# Altium footprint library 插座.PcbLib: 91 footprints (part 3 of 6)
Each footprint in its own frame and in the unit in brackets; x right, y up, seen from the top. Pads: shape width x height; smd on the part's side, far side on the other; paste and mask are expansions set on the pad; w line width, h text height; cw(c..) or ccw(c..) is an arc to the next point about the centre after c.
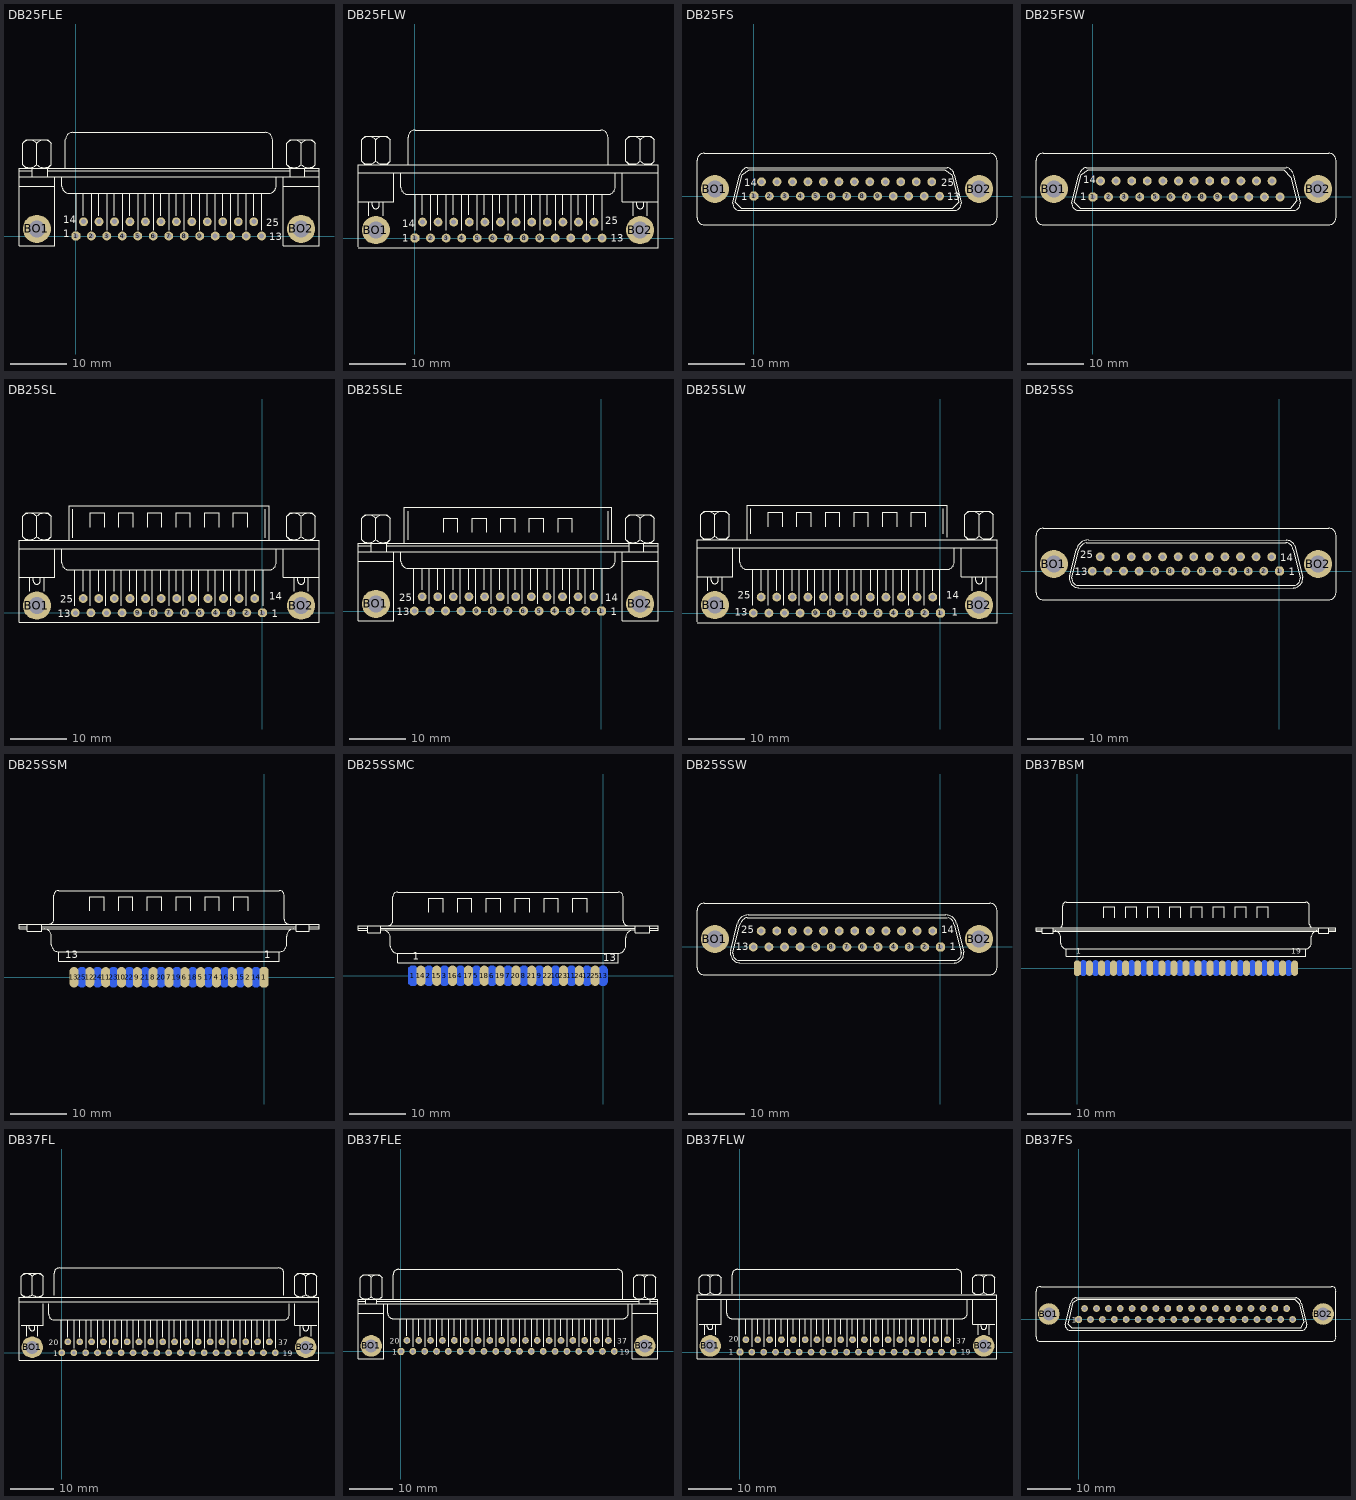
[diagram p2: the footprints below, top view; thin cyan lines are the x and y axes]

## DB25FLE [mil]
pads (27):
  oct 62x62 hole 35: 1(0,0)
  round 62 hole 35: 2(108.33,0) 3(216.67,0) 4(325,0) 5(433.33,0) 6(541.67,0) 7(650,0) 8(758.33,0) 9(866.67,0) 10(975,0) 11(1083.33,0) 12(1191.67,0) 13(1300,0) 14(53.33,100) 15(161.67,100) 16(270,100) 17(378.33,100) 18(486.67,100) 19(595,100) 20(703.33,100) 21(811.67,100) 22(920,100) 23(1028.33,100) 24(1136.67,100) 25(1245,100)
  round 196.67 hole 118.33: BO1(-273.33,50) BO2(1576.67,50)
TopOverlay:
  lines w8: -398.33,350 -148.33,350 ; -398.33,416.67 1701.67,416.67 ; -398.33,458.33 -306.67,458.33 ; -373.42,499.91 ccw(c-323.33,550) -273.25,499.91 ; -373.42,650.09 cw(c-323.33,600) -273.25,650.09 ; -348.33,475 -373.33,500 -373.33,650 -348.33,675 -198.33,675 -173.33,650 -173.33,500 -198.33,475 -198.33,416.67 ; -306.67,416.67 -306.67,475 ; -273.42,499.91 ccw(c-223.33,550) -173.25,499.91 ; -273.42,650.09 cw(c-223.33,600) -173.25,650.09 ; -273.33,500 -273.33,650 ; -198.33,458.33 1501.67,458.33 ; -148.33,416.67 -148.33,-66.67 -398.33,-66.67 -398.33,475 1701.67,475 1701.67,-66.67 1451.67,-66.67 1451.67,416.67 ; -98.33,416.67 -98.33,350 ccw(c-48.33,350) -48.33,300 1351.67,300 ccw(c1351.67,350) 1401.67,350 1401.67,416.67 ; -73.33,475 -73.33,675 cw(c-23.33,675) -23.33,725 1326.67,725 cw(c1326.67,675) 1376.67,675 1376.67,475 ; 1.67,41.67 1.67,300 ; 51.67,141.67 51.67,300 ; 110,41.67 110,300 ; 160,141.67 160,300 ; 218.33,41.67 218.33,300 ; 268.33,141.67 268.33,300 ; 326.67,41.67 326.67,300 ; 376.67,141.67 376.67,300 ; 435,41.67 435,300 ; 485,141.67 485,300 ; 543.33,41.67 543.33,300 ; 593.33,141.67 593.33,300 ; 651.67,41.67 651.67,300 ; 701.67,141.67 701.67,300 ; 760,41.67 760,300 ; 810,141.67 810,300 ; 868.33,41.67 868.33,300 ; 918.33,141.67 918.33,300 ; 976.67,41.67 976.67,300 ; 1026.67,141.67 1026.67,300 ; 1085,41.67 1085,300 ; 1135,141.67 1135,300 ; 1193.33,41.67 1193.33,300 ; 1243.33,141.67 1243.33,300 ; 1301.67,41.67 1301.67,300 ; 1451.67,350 1701.67,350 ; 1476.58,499.91 ccw(c1526.67,550) 1576.75,499.91 ; 1476.58,650.09 cw(c1526.67,600) 1576.75,650.09 ; 1501.67,416.67 1501.67,475 1476.67,500 1476.67,650 1501.67,675 1651.67,675 1676.67,650 1676.67,500 1651.67,475 ; 1576.58,499.91 ccw(c1626.67,550) 1676.75,499.91 ; 1576.58,650.09 cw(c1626.67,600) 1676.75,650.09 ; 1576.67,500 1576.67,650 ; 1601.67,416.67 1601.67,475 ; 1601.67,458.33 1701.67,458.33
  text "25" at 1331.67,70 h50
  text "13" at 1351.67,-30 h50
  text "1" at -88.33,-10 h50
  text "14" at -88.33,90 h50

## DB25FLW [mil]
pads (27):
  oct 62x62 hole 35: 1(0,0)
  round 62 hole 35: 2(109.17,0) 3(218.33,0) 4(327.5,0) 5(436.67,0) 6(545.83,0) 7(655,0) 8(764.17,0) 9(873.33,0) 10(982.5,0) 11(1091.67,0) 12(1200.83,0) 13(1310,0) 14(53.33,111.67) 15(162.5,111.67) 16(271.67,111.67) 17(380.83,111.67) 18(490,111.67) 19(599.17,111.67) 20(708.33,111.67) 21(817.5,111.67) 22(926.67,111.67) 23(1035.83,111.67) 24(1145,111.67) 25(1254.17,111.67)
  round 196.67 hole 118.33: BO1(-273.33,55.83) BO2(1576.67,55.83)
TopOverlay:
  lines w8: -398.33,-69.17 1701.67,-69.17 1701.67,514.17 -398.33,514.17 -398.33,-60.83 ; -398.33,255.83 -148.33,255.83 -148.33,455.83 ; -398.33,455.83 1701.67,455.83 ; -373.42,539.08 ccw(c-323.33,589.17) -273.25,539.08 ; -373.42,689.25 cw(c-323.33,639.17) -273.25,689.25 ; -348.33,514.17 -373.33,539.17 -373.33,689.17 -348.33,714.17 -198.33,714.17 -173.33,689.17 -173.33,539.17 -198.33,514.17 ; -323.33,155.83 -323.33,255.83 ; -298.33,255.83 -298.33,230.83 ccw(c-273.33,230.83) -248.33,230.83 -248.33,255.83 ; -273.42,539.08 ccw(c-223.33,589.17) -173.25,539.08 ; -273.42,689.25 cw(c-223.33,639.17) -173.25,689.25 ; -273.33,539.17 -273.33,689.17 ; -223.33,155.83 -223.33,255.83 ; -98.33,455.83 -98.33,355.83 ccw(c-48.33,355.83) -48.33,305.83 1351.67,305.83 ccw(c1351.67,355.83) 1401.67,355.83 1401.67,455.83 ; -48.33,514.17 -48.33,705.83 cw(c1.67,705.83) 1.67,755.83 1276.67,755.83 1301.67,755.83 cw(c1301.67,705.83) 1351.67,705.83 1351.67,514.17 ; 1.67,55.83 1.67,305.83 ; 51.67,164.17 51.67,305.83 ; 110,55.83 110,305.83 ; 160,164.17 160,305.83 ; 218.33,55.83 218.33,305.83 ; 268.33,164.17 268.33,305.83 ; 326.67,55.83 326.67,305.83 ; 376.67,164.17 376.67,305.83 ; 435,55.83 435,305.83 ; 485,164.17 485,305.83 ; 543.33,55.83 543.33,305.83 ; 593.33,172.5 593.33,305.83 ; 651.67,55.83 651.67,305.83 ; 710,172.5 710,305.83 ; 768.33,55.83 768.33,305.83 ; 818.33,164.17 818.33,305.83 ; 876.67,55.83 876.67,305.83 ; 926.67,164.17 926.67,305.83 ; 985,55.83 985,305.83 ; 1035,164.17 1035,305.83 ; 1093.33,55.83 1093.33,305.83 ; 1143.33,164.17 1143.33,305.83 ; 1201.67,55.83 1201.67,305.83 ; 1251.67,164.17 1251.67,305.83 ; 1310,55.83 1310,305.83 ; 1451.67,455.83 1451.67,255.83 1701.67,255.83 ; 1476.58,539.08 ccw(c1526.67,589.17) 1576.75,539.08 ; 1476.58,689.25 cw(c1526.67,639.17) 1576.75,689.25 ; 1501.67,514.17 1476.67,539.17 1476.67,689.17 1501.67,714.17 1651.67,714.17 1676.67,689.17 1676.67,539.17 1651.67,514.17 ; 1526.67,155.83 1526.67,255.83 ; 1551.67,255.83 1551.67,230.83 ccw(c1576.67,230.83) 1601.67,230.83 1601.67,255.83 ; 1576.58,539.08 ccw(c1626.67,589.17) 1676.75,539.08 ; 1576.58,689.25 cw(c1626.67,639.17) 1676.75,689.25 ; 1576.67,539.17 1576.67,689.17 ; 1626.67,155.83 1626.67,255.83
  text "14" at -88.33,75.83 h50
  text "1" at -88.33,-24.17 h50
  text "13" at 1371.67,-24.17 h50
  text "25" at 1331.67,95.83 h50

## DB25FS [mil]
pads (27):
  oct 62x62 hole 35: 1(0,0)
  round 62 hole 35: 2(108.33,0) 3(216.67,0) 4(325,0) 5(433.33,0) 6(541.67,0) 7(650,0) 8(758.33,0) 9(866.67,0) 10(975,0) 11(1083.33,0) 12(1191.67,0) 13(1300,0) 14(53.33,100) 15(161.67,100) 16(270,100) 17(378.33,100) 18(486.67,100) 19(595,100) 20(703.33,100) 21(811.67,100) 22(920,100) 23(1028.33,100) 24(1136.67,100) 25(1245,100)
  round 196.67 hole 118.33: BO1(-273.33,50) BO2(1576.67,50)
TopOverlay:
  lines w8: -98.33,150 -148.33,-50 ccw(c-98.33,-50) -98.33,-100 1401.67,-100 ccw(c1401.67,-50) 1451.67,-50 1401.67,150 ; -97.97,149.86 cw(c-31.67,133.33) -48.2,199.64 ; -48.33,200 1351.67,200 ; 1352.59,200.1 cw(c1343.33,141.67) 1401.92,149.9 ; -398.33,-150 ccw(c-348.33,-150) -348.33,-200 1651.67,-200 ccw(c1651.67,-150) 1701.67,-150 1701.67,250 ccw(c1651.67,250) 1651.67,300 -348.33,300 ccw(c-348.33,250) -398.33,250 -398.33,-150 ; -131.67,-41.67 -90,-83.33 1393.33,-83.33 1435,-41.67 1385,150 1335,183.33 -31.67,183.33 -81.67,150 -131.67,-41.67
  text "14" at -68.33,70 h50
  text "1" at -88.33,-30 h50
  text "13" at 1351.67,-30 h50
  text "25" at 1311.67,70 h50

## DB25FSW [mil]
pads (27):
  oct 62x62 hole 35: 1(0,0)
  round 62 hole 35: 2(109.17,0) 3(218.33,0) 4(327.5,0) 5(436.67,0) 6(545.83,0) 7(655,0) 8(764.17,0) 9(873.33,0) 10(982.5,0) 11(1091.67,0) 12(1200.83,0) 13(1310,0) 14(53.33,111.67) 15(162.5,111.67) 16(271.67,111.67) 17(380.83,111.67) 18(490,111.67) 19(599.17,111.67) 20(708.33,111.67) 21(817.5,111.67) 22(926.67,111.67) 23(1035.83,111.67) 24(1145,111.67) 25(1254.17,111.67)
  round 196.67 hole 118.33: BO1(-273.33,55.83) BO2(1576.67,55.83)
TopOverlay:
  lines w8: -98.33,-94.17 1401.67,-94.17 ccw(c1401.67,-44.17) 1451.67,-44.17 1401.67,155.83 ; -98.33,155.83 -148.33,-44.17 ccw(c-98.33,-44.17) -90.51,-93.55 ; -97.97,155.7 cw(c-31.67,139.17) -48.2,205.47 ; -48.33,205.83 1351.67,205.83 ; 1354.52,207.26 cw(c1335,139.17) 1401.13,164.55 ; -398.33,-144.17 ccw(c-348.33,-144.17) -348.33,-194.17 1651.67,-194.17 ccw(c1651.67,-144.17) 1701.67,-144.17 1701.67,255.83 ccw(c1651.67,255.83) 1651.67,305.83 -348.33,305.83 ccw(c-348.33,255.83) -398.33,255.83 -398.33,-144.17 ; -131.67,-35.83 -90,-77.5 1385,-77.5 1426.67,-27.5 1385,139.17 1335,189.17 -31.67,189.17 -81.67,155.83 -131.67,-35.83
  text "1" at -88.33,-24.17 h50
  text "14" at -68.33,95.83 h50

## DB25SL [mil]
pads (27):
  oct 62x62 hole 35: 1(0,0)
  round 62 hole 35: 2(-109.17,0) 3(-218.33,0) 4(-327.5,0) 5(-436.67,0) 6(-545.83,0) 7(-655,0) 8(-764.17,0) 9(-873.33,0) 10(-982.5,0) 11(-1091.67,0) 12(-1200.83,0) 13(-1310,0) 14(-54.17,100) 15(-163.33,100) 16(-272.5,100) 17(-381.67,100) 18(-490.83,100) 19(-600,100) 20(-709.17,100) 21(-818.33,100) 22(-927.5,100) 23(-1036.67,100) 24(-1145.83,100) 25(-1255,100)
  round 196.67 hole 118.33: BO1(-1579.17,50) BO2(270.83,50)
TopOverlay:
  lines w8: -1704.17,250 -1454.17,250 -1454.17,450 ; -1704.17,450 395.83,450 ; -1679.25,533.25 ccw(c-1629.17,583.33) -1579.08,533.25 ; -1679.25,675.09 cw(c-1629.17,625) -1579.08,675.09 ; -1654.17,508.33 -1679.17,533.33 -1679.17,675 -1654.17,700 -1504.17,700 -1479.17,675 -1479.17,533.33 -1504.17,508.33 ; -1629.17,150 -1629.17,250 ; -1604.17,250 -1604.17,225 ccw(c-1579.17,225) -1554.17,225 -1554.17,250 ; -1579.25,533.25 ccw(c-1529.17,583.33) -1479.08,533.25 ; -1579.25,675.09 cw(c-1529.17,625) -1479.08,675.09 ; -1579.17,533.33 -1579.17,675 ; -1529.17,150 -1529.17,250 ; -1404.17,450 -1404.17,350 ccw(c-1354.17,350) -1354.17,300 45.83,300 ccw(c45.83,350) 95.83,350 95.83,450 ; -1354.17,508.33 -1354.17,750 45.83,750 45.83,508.33 ; -1329.17,525 -1329.17,725 ; -1312.5,50 -1312.5,300 ; -1254.17,150 -1254.17,300 ; -1204.17,50 -1204.17,300 ; -1204.17,600 -1204.17,700 -1104.17,700 -1104.17,600 ; -1145.83,150 -1145.83,300 ; -1095.83,50 -1095.83,300 ; -1037.5,150 -1037.5,300 ; -1004.17,600 -1004.17,700 -904.17,700 -904.17,600 ; -987.5,50 -987.5,300 ; -929.17,150 -929.17,300 ; -879.17,50 -879.17,300 ; -820.83,150 -820.83,300 ; -804.17,600 -804.17,700 -704.17,700 -704.17,600 ; -770.83,50 -770.83,300 ; -712.5,150 -712.5,300 ; -654.17,50 -654.17,300 ; -604.17,150 -604.17,300 ; -604.17,600 -604.17,700 -504.17,700 -504.17,600 ; -554.17,50 -554.17,300 ; -495.83,150 -495.83,300 ; -445.83,50 -445.83,300 ; -404.17,600 -404.17,700 -304.17,700 -304.17,600 ; -379.17,150 -379.17,300 ; -329.17,50 -329.17,300 ; -270.83,150 -270.83,300 ; -220.83,50 -220.83,300 ; -204.17,600 -204.17,700 -104.17,700 -104.17,600 ; -162.5,150 -162.5,300 ; -112.5,50 -112.5,300 ; -54.17,150 -54.17,300 ; 4.17,50 4.17,300 ; 20.83,525 20.83,725 ; 145.83,450 145.83,250 395.83,250 ; 170.75,533.25 ccw(c220.83,583.33) 270.92,533.25 ; 170.75,675.09 cw(c220.83,625) 270.92,675.09 ; 195.83,508.33 170.83,533.33 170.83,675 195.83,700 345.83,700 370.83,675 370.83,533.33 345.83,508.33 ; 220.83,150 220.83,250 ; 245.83,250 245.83,225 ccw(c270.83,225) 295.83,225 295.83,250 ; 270.75,533.25 ccw(c320.83,583.33) 370.92,533.25 ; 270.75,675.09 cw(c320.83,625) 370.92,675.09 ; 270.83,533.33 270.83,675 ; 320.83,150 320.83,250 ; -1704.17,-66.67 395.83,-66.67 395.83,508.33 -1704.17,508.33 -1704.17,-66.67
  text "25" at -1414.17,70 h50
  text "13" at -1434.17,-30 h50
  text "1" at 65.83,-30 h50
  text "14" at 45.83,90 h50

## DB25SLE [mil]
pads (27):
  oct 62x62 hole 35: 1(0,0)
  round 62 hole 35: 2(-109.17,0) 3(-218.33,0) 4(-327.5,0) 5(-436.67,0) 6(-545.83,0) 7(-655,0) 8(-764.17,0) 9(-873.33,0) 10(-982.5,0) 11(-1091.67,0) 12(-1200.83,0) 13(-1310,0) 14(-54.17,100) 15(-163.33,100) 16(-272.5,100) 17(-381.67,100) 18(-490.83,100) 19(-600,100) 20(-709.17,100) 21(-818.33,100) 22(-927.5,100) 23(-1036.67,100) 24(-1145.83,100) 25(-1255,100)
  round 196.67 hole 118.33: BO1(-1579.17,50) BO2(270.83,50)
TopOverlay:
  lines w8: -1704.17,350 -1454.17,350 ; -1704.17,416.67 395.83,416.67 ; -1704.17,458.33 -1612.5,458.33 ; -1679.25,499.91 ccw(c-1629.17,550) -1579.08,499.91 ; -1679.25,650.09 cw(c-1629.17,600) -1579.08,650.09 ; -1654.17,475 -1679.17,500 -1679.17,650 -1654.17,675 -1504.17,675 -1479.17,650 -1479.17,500 -1504.17,475 -1504.17,416.67 ; -1612.5,416.67 -1612.5,475 ; -1579.25,499.91 ccw(c-1529.17,550) -1479.08,499.91 ; -1579.25,650.09 cw(c-1529.17,600) -1479.08,650.09 ; -1579.17,500 -1579.17,650 ; -1504.17,458.33 195.83,458.33 ; -1454.17,416.67 -1454.17,-66.67 -1704.17,-66.67 -1704.17,475 395.83,475 395.83,-66.67 145.83,-66.67 145.83,416.67 ; -1404.17,416.67 -1404.17,350 ccw(c-1354.17,350) -1354.17,300 45.83,300 ccw(c45.83,350) 95.83,350 95.83,416.67 ; -1379.17,475 -1379.17,725 70.83,725 70.83,475 ; -1354.17,500 -1354.17,700 ; -1312.5,50 -1312.5,300 ; -1254.17,150 -1254.17,300 ; -1204.17,50 -1204.17,300 ; -1145.83,150 -1145.83,300 ; -1104.17,550 -1104.17,650 -1004.17,650 -1004.17,550 ; -1095.83,50 -1095.83,300 ; -1037.5,150 -1037.5,300 ; -987.5,50 -987.5,300 ; -929.17,150 -929.17,300 ; -904.17,550 -904.17,650 -804.17,650 -804.17,550 ; -879.17,50 -879.17,300 ; -820.83,150 -820.83,300 ; -770.83,50 -770.83,300 ; -712.5,150 -712.5,300 ; -704.17,550 -704.17,650 -604.17,650 -604.17,550 ; -654.17,50 -654.17,300 ; -604.17,150 -604.17,300 ; -554.17,50 -554.17,300 ; -504.17,550 -504.17,650 -404.17,650 -404.17,550 ; -495.83,150 -495.83,300 ; -445.83,50 -445.83,300 ; -379.17,150 -379.17,300 ; -329.17,50 -329.17,300 ; -304.17,550 -304.17,650 -204.17,650 -204.17,550 ; -270.83,150 -270.83,300 ; -220.83,50 -220.83,300 ; -162.5,150 -162.5,300 ; -112.5,50 -112.5,300 ; -54.17,150 -54.17,300 ; 4.17,50 4.17,300 ; 45.83,500 45.83,700 ; 145.83,350 395.83,350 ; 170.75,499.91 ccw(c220.83,550) 270.92,499.91 ; 170.75,650.09 cw(c220.83,600) 270.92,650.09 ; 195.83,416.67 195.83,475 170.83,500 170.83,650 195.83,675 345.83,675 370.83,650 370.83,500 345.83,475 ; 270.75,499.91 ccw(c320.83,550) 370.92,499.91 ; 270.75,650.09 cw(c320.83,600) 370.92,650.09 ; 270.83,500 270.83,650 ; 295.83,416.67 295.83,475 ; 295.83,458.33 395.83,458.33
  text "14" at 25.83,70 h50
  text "1" at 65.83,-30 h50
  text "13" at -1434.17,-30 h50
  text "25" at -1414.17,70 h50

## DB25SLW [mil]
pads (27):
  oct 62x62 hole 35: 1(0,0)
  round 62 hole 35: 2(-109.17,0) 3(-218.33,0) 4(-327.5,0) 5(-436.67,0) 6(-545.83,0) 7(-655,0) 8(-764.17,0) 9(-873.33,0) 10(-982.5,0) 11(-1091.67,0) 12(-1200.83,0) 13(-1310,0) 14(-54.17,111.67) 15(-163.33,111.67) 16(-272.5,111.67) 17(-381.67,111.67) 18(-490.83,111.67) 19(-600,111.67) 20(-709.17,111.67) 21(-818.33,111.67) 22(-927.5,111.67) 23(-1036.67,111.67) 24(-1145.83,111.67) 25(-1255,111.67)
  round 196.67 hole 118.33: BO1(-1579.17,55.83) BO2(270.83,55.83)
TopOverlay:
  lines w8: -1704.17,-69.17 395.83,-69.17 395.83,514.17 -1704.17,514.17 -1704.17,-60.83 ; -1704.17,255.83 -1454.17,255.83 -1454.17,455.83 ; -1704.17,455.83 395.83,455.83 ; -1679.25,539.08 ccw(c-1629.17,589.17) -1579.08,539.08 ; -1679.25,689.25 cw(c-1629.17,639.17) -1579.08,689.25 ; -1654.17,514.17 -1679.17,539.17 -1679.17,689.17 -1654.17,714.17 -1504.17,714.17 -1479.17,689.17 -1479.17,539.17 -1504.17,514.17 ; -1629.17,155.83 -1629.17,255.83 ; -1604.17,255.83 -1604.17,230.83 ccw(c-1579.17,230.83) -1554.17,230.83 -1554.17,255.83 ; -1579.25,539.08 ccw(c-1529.17,589.17) -1479.08,539.08 ; -1579.25,689.25 cw(c-1529.17,639.17) -1479.08,689.25 ; -1579.17,539.17 -1579.17,689.17 ; -1529.17,155.83 -1529.17,255.83 ; -1404.17,455.83 -1404.17,355.83 ccw(c-1354.17,355.83) -1354.17,305.83 45.83,305.83 ccw(c45.83,355.83) 95.83,355.83 95.83,455.83 ; -1354.17,514.17 -1354.17,755.83 45.83,755.83 45.83,530.83 ; -1329.17,555.83 -1329.17,730.83 ; -1312.5,55.83 -1312.5,305.83 ; -1254.17,155.83 -1254.17,305.83 ; -1204.17,55.83 -1204.17,305.83 ; -1204.17,605.83 -1204.17,705.83 -1104.17,705.83 -1104.17,605.83 ; -1145.83,155.83 -1145.83,305.83 ; -1095.83,55.83 -1095.83,305.83 ; -1037.5,155.83 -1037.5,305.83 ; -1004.17,605.83 -1004.17,705.83 -904.17,705.83 -904.17,605.83 ; -987.5,55.83 -987.5,305.83 ; -929.17,155.83 -929.17,305.83 ; -879.17,55.83 -879.17,305.83 ; -820.83,155.83 -820.83,305.83 ; -804.17,605.83 -804.17,705.83 -704.17,705.83 -704.17,605.83 ; -770.83,55.83 -770.83,305.83 ; -712.5,155.83 -712.5,305.83 ; -654.17,55.83 -654.17,305.83 ; -604.17,155.83 -604.17,305.83 ; -604.17,605.83 -604.17,705.83 -504.17,705.83 -504.17,605.83 ; -554.17,55.83 -554.17,305.83 ; -487.5,155.83 -487.5,305.83 ; -437.5,55.83 -437.5,305.83 ; -404.17,605.83 -404.17,705.83 -304.17,705.83 -304.17,605.83 ; -379.17,155.83 -379.17,305.83 ; -329.17,55.83 -329.17,305.83 ; -270.83,155.83 -270.83,305.83 ; -220.83,55.83 -220.83,305.83 ; -204.17,605.83 -204.17,705.83 -104.17,705.83 -104.17,605.83 ; -162.5,155.83 -162.5,305.83 ; -112.5,55.83 -112.5,305.83 ; -54.17,155.83 -54.17,305.83 ; -4.17,55.83 -4.17,305.83 ; 20.83,555.83 20.83,730.83 ; 145.83,455.83 145.83,255.83 395.83,255.83 ; 170.75,539.08 ccw(c220.83,589.17) 270.92,539.08 ; 170.75,689.25 cw(c220.83,639.17) 270.92,689.25 ; 195.83,514.17 170.83,539.17 170.83,689.17 195.83,714.17 345.83,714.17 370.83,689.17 370.83,539.17 345.83,514.17 ; 220.83,155.83 220.83,255.83 ; 245.83,255.83 245.83,230.83 ccw(c270.83,230.83) 295.83,230.83 295.83,255.83 ; 270.75,539.08 ccw(c320.83,589.17) 370.92,539.08 ; 270.75,689.25 cw(c320.83,639.17) 370.92,689.25 ; 270.83,539.17 270.83,689.17 ; 320.83,155.83 320.83,255.83
  text "1" at 80,-20 h50
  text "14" at 40,100 h50
  text "25" at -1420,100 h50
  text "13" at -1440,-20 h50

## DB25SS [mil]
pads (27):
  oct 62x62 hole 35: 1(0,0)
  round 62 hole 35: 2(-109.17,0) 3(-218.33,0) 4(-327.5,0) 5(-436.67,0) 6(-545.83,0) 7(-655,0) 8(-764.17,0) 9(-873.33,0) 10(-982.5,0) 11(-1091.67,0) 12(-1200.83,0) 13(-1310,0) 14(-54.17,100) 15(-163.33,100) 16(-272.5,100) 17(-381.67,100) 18(-490.83,100) 19(-600,100) 20(-709.17,100) 21(-818.33,100) 22(-927.5,100) 23(-1036.67,100) 24(-1145.83,100) 25(-1255,100)
  round 196.67 hole 118.33: BO1(-1579.17,50) BO2(270.83,50)
TopOverlay:
  lines w8: -1469.17,-35 -1420.83,150 ; -1468.85,-33.87 ccw(c-1404.17,-50) -1404.17,-116.67 95.83,-118.33 ; -1420.94,149.55 cw(c-1337.5,133.33) -1337.5,218.33 45.83,216.67 cw(c45.83,150) 107.2,176.05 ; -1404.46,149.46 cw(c-1329.17,125) -1353.63,200.29 ; -1404.17,150 -1454.17,-50 ccw(c-1404.17,-50) -1404.17,-100 95.83,-100 ccw(c95.83,-50) 145.83,-50 95.83,150 ; -1354.17,200 45.83,200 ; 45.73,200.26 cw(c37.5,141.67) 96.09,149.9 ; 95.83,-117.5 ccw(c95.83,-50) 162.83,-41.77 ; 107.5,176.67 162.5,-41.67 ; -1704.17,-150 ccw(c-1654.17,-150) -1654.17,-200 345.83,-200 ccw(c345.83,-150) 395.83,-150 395.83,250 ccw(c345.83,250) 345.83,300 -1654.17,300 ccw(c-1654.17,250) -1704.17,250 -1704.17,-150
  text "25" at -1394.17,90 h50
  text "13" at -1434.17,-30 h50
  text "1" at 65.83,-30 h50
  text "14" at 5.83,70 h50

## DB25SSM [mil]
pads (25):
  oct 62.5x141.67 smd: 1(0,0)
  oval 62.5x141.67 smd: 2(-110,0) 3(-220,0) 4(-330,0) 5(-440,0) 6(-550,0) 7(-660,0) 8(-770,0) 9(-880,0) 10(-990,0) 11(-1100,0) 12(-1210,0) 13(-1320,0)
  oval 62.5x141.67 smd far side: 14(-55,0) 15(-165,0) 16(-275,0) 17(-385,0) 18(-495,0) 19(-605,0) 20(-715,0) 21(-825,0) 22(-935,0) 23(-1045,0) 24(-1155,0) 25(-1265,0)
TopOverlay:
  lines w8: -1701.67,351.67 -1643.33,351.67 ; -1643.33,335 -1701.67,335 -1701.67,368.33 381.67,368.33 381.67,335 315,335 ; -1643.33,368.33 -1643.33,318.33 -1543.33,318.33 -1543.33,368.33 ; -1543.33,335 223.33,335 ; -1543.33,351.67 223.33,351.67 ; -1526.67,335 cw(c-1526.67,285) -1476.67,285 -1476.67,226.67 ccw(c-1426.67,226.67) -1426.67,176.67 ; -1493.33,368.33 ccw(c-1493.33,401.67) -1460,401.67 -1460,568.33 cw(c-1426.67,568.33) -1426.67,601.67 106.67,601.67 cw(c106.67,568.33) 140,568.33 140,401.67 ccw(c173.33,401.67) 173.33,368.33 ; -1210,460 -1210,560 -1110,560 -1110,460 ; -1010,460 -1010,560 -910,560 -910,460 ; -810,460 -810,560 -710,560 -710,460 ; -610,460 -610,560 -510,560 -510,460 ; -410,460 -410,560 -310,560 -310,460 ; -210,460 -210,560 -110,560 -110,460 ; 206.67,335 ccw(c206.67,285) 156.67,285 156.67,226.67 cw(c106.67,226.67) 106.67,176.67 ; 223.33,368.33 223.33,318.33 315,318.33 315,368.33 ; 315,351.67 381.67,351.67 ; -1426.67,176.67 -1426.67,110 106.67,110 106.67,176.67 ; -1426.67,176.67 106.67,176.67
  text "13" at -1380,130 h50
  text "1" at 0,130 h50

## DB25SSMC [mil]
pads (25):
  oct 62.5x141.67 smd far side: 1(-1320,0)
  oval 62.5x141.67 smd far side: 2(-1210,0) 3(-1100,0) 4(-990,0) 5(-880,0) 6(-770,0) 7(-660,0) 8(-550,0) 9(-440,0) 10(-330,0) 11(-220,0) 12(-110,0) 13(0,0)
  oval 62.5x141.67 smd: 14(-1265,0) 15(-1155,0) 16(-1045,0) 17(-935,0) 18(-825,0) 19(-715,0) 20(-605,0) 21(-495,0) 22(-385,0) 23(-275,0) 24(-165,0) 25(-55,0)
TopOverlay:
  lines w8: -1701.67,331.67 -1635,331.67 ; -1635,315 -1701.67,315 -1701.67,348.33 381.67,348.33 381.67,315 323.33,315 ; -1635,348.33 -1635,298.33 -1543.33,298.33 -1543.33,348.33 ; -1546.67,320 220,320 ; -1543.33,331.67 223.33,331.67 ; -1526.67,315 cw(c-1526.67,265) -1476.67,265 -1476.67,206.67 ccw(c-1426.67,206.67) -1426.67,156.67 ; -1493.33,348.33 ccw(c-1493.33,381.67) -1460,381.67 -1460,548.33 cw(c-1426.67,548.33) -1426.67,581.67 106.67,581.67 cw(c106.67,548.33) 140,548.33 140,381.67 ccw(c173.33,381.67) 173.33,348.33 ; -1210,440 -1210,540 -1110,540 -1110,440 ; -1010,440 -1010,540 -910,540 -910,440 ; -810,440 -810,540 -710,540 -710,440 ; -610,440 -610,540 -510,540 -510,440 ; -410,440 -410,540 -310,540 -310,440 ; -210,440 -210,540 -110,540 -110,440 ; 206.67,315 ccw(c206.67,265) 156.67,265 156.67,206.67 cw(c106.67,206.67) 106.67,156.67 ; 223.33,348.33 223.33,298.33 323.33,298.33 323.33,348.33 ; 323.33,331.67 381.67,331.67 ; -1426.67,156.67 -1426.67,90 106.67,90 106.67,156.67 ; -1426.67,156.67 106.67,156.67
  text "1" at -1320,110 h50
  text "13" at 0,100 h50

## DB25SSW [mil]
pads (27):
  oct 62x62 hole 35: 1(0,0)
  round 62 hole 35: 2(-109.17,0) 3(-218.33,0) 4(-327.5,0) 5(-436.67,0) 6(-545.83,0) 7(-655,0) 8(-764.17,0) 9(-873.33,0) 10(-982.5,0) 11(-1091.67,0) 12(-1200.83,0) 13(-1310,0) 14(-54.17,111.67) 15(-163.33,111.67) 16(-272.5,111.67) 17(-381.67,111.67) 18(-490.83,111.67) 19(-600,111.67) 20(-709.17,111.67) 21(-818.33,111.67) 22(-927.5,111.67) 23(-1036.67,111.67) 24(-1145.83,111.67) 25(-1255,111.67)
  round 196.67 hole 118.33: BO1(-1579.17,55.83) BO2(270.83,55.83)
TopOverlay:
  lines w8: -1469.17,-25.83 -1420.83,164.17 ; -1468.25,-25.79 ccw(c-1404.17,-44.17) -1404.17,-110.83 95.83,-112.5 ; -1420.53,164.75 cw(c-1345.83,147.5) -1345.83,224.16 37.5,224.17 cw(c37.5,147.5) 112.2,164.75 ; -1404.17,155.83 -1454.17,-44.17 ccw(c-1404.17,-44.17) -1404.17,-94.17 95.83,-94.17 ccw(c95.83,-44.17) 145.22,-36.35 ; -1403.8,155.7 cw(c-1337.5,139.17) -1354.03,205.47 ; -1354.17,205.83 45.83,205.83 ; 53.81,204.37 cw(c37.5,147.5) 96.09,155.73 ; 95.83,-111.67 ccw(c95.83,-44.17) 162.83,-35.94 ; 95.83,155.83 145.83,-44.17 ; 112.5,164.17 162.5,-35.83 ; -1704.17,-144.17 ccw(c-1654.17,-144.17) -1654.17,-194.17 345.83,-194.17 ccw(c345.83,-144.17) 395.83,-144.17 395.83,255.83 ccw(c345.83,255.83) 345.83,305.83 -1654.17,305.83 ccw(c-1654.17,255.83) -1704.17,255.83 -1704.17,-144.17
  text "13" at -1434.17,-24.17 h50
  text "1" at 65.83,-24.17 h50
  text "14" at 5.83,95.83 h50
  text "25" at -1394.17,95.83 h50

## DB37BSM [mil]
pads (37):
  oct 62.5x141.67 smd: 1(0,0)
  oval 62.5x141.67 smd: 2(110,0) 3(220,0) 4(330,0) 5(440,0) 6(550,0) 7(660,0) 8(770,0) 9(880,0) 10(990,0) 11(1100,0) 12(1210,0) 13(1320,0) 14(1430,0) 15(1540,0) 16(1650,0) 17(1760,0) 18(1870,0) 19(1980,0)
  oval 62.5x141.67 smd far side: 20(55,0) 21(165,0) 22(275,0) 23(385,0) 24(495,0) 25(605,0) 26(715,0) 27(825,0) 28(935,0) 29(1045,0) 30(1155,0) 31(1265,0) 32(1375,0) 33(1485,0) 34(1595,0) 35(1705,0) 36(1815,0) 37(1925,0)
TopOverlay:
  lines w8: -376.67,351.67 -318.33,351.67 ; -318.33,335 -376.67,335 -376.67,368.33 2356.67,368.33 2356.67,335 2290,335 ; -318.33,368.33 -318.33,318.33 -218.33,318.33 -218.33,368.33 ; -218.33,335 2198.33,335 ; -218.33,351.67 2198.33,351.67 ; -201.67,335 cw(c-201.67,285) -151.67,285 -151.67,226.67 ccw(c-101.67,226.67) -101.67,176.67 ; -168.33,368.33 ccw(c-168.33,401.67) -135,401.67 -135,568.33 cw(c-101.67,568.33) -101.67,601.67 2081.67,601.67 cw(c2081.67,568.33) 2115,568.33 2115,401.67 ccw(c2148.33,401.67) 2148.33,368.33 ; 240,460 240,560 340,560 340,460 ; 440,460 440,560 540,560 540,460 ; 640,460 640,560 740,560 740,460 ; 840,460 840,560 940,560 940,460 ; 1040,460 1040,560 1140,560 1140,460 ; 1240,460 1240,560 1340,560 1340,460 ; 1440,460 1440,560 1540,560 1540,460 ; 1640,460 1640,560 1740,560 1740,460 ; 2181.67,335 ccw(c2181.67,285) 2131.67,285 2131.67,226.67 cw(c2081.67,226.67) 2081.67,176.67 ; 2198.33,368.33 2198.33,318.33 2290,318.33 2290,368.33 ; 2290,351.67 2356.67,351.67 ; -101.67,176.67 -101.67,110 2081.67,110 2081.67,176.67 ; -101.67,176.67 2081.67,176.67
  text "19" at 1950,130 h50
  text "1" at -10,130 h50

## DB37FL [mil]
pads (39):
  oct 62x62 hole 35: 1(0,0)
  round 62 hole 35: 2(110,0) 3(218.33,0) 4(326.67,0) 5(435,0) 6(543.33,0) 7(651.67,0) 8(760,0) 9(868.33,0) 10(976.67,0) 11(1085,0) 12(1193.33,0) 13(1301.67,0) 14(1410,0) 15(1518.33,0) 16(1626.67,0) 17(1735,0) 18(1843.33,0) 19(1951.67,0) 20(55.83,100) 21(164.17,100) 22(272.5,100) 23(380.83,100) 24(489.17,100) 25(597.5,100) 26(705.83,100) 27(814.17,100) 28(922.5,100) 29(1030.83,100) 30(1139.17,100) 31(1247.5,100) 32(1355.83,100) 33(1464.17,100) 34(1572.5,100) 35(1680.83,100) 36(1789.17,100) 37(1897.5,100)
  round 196.67 hole 118.33: BO1(-270,50) BO2(2230,50)
TopOverlay:
  lines w8: -386.67,466.67 2346.67,466.67 ; -370.09,533.25 ccw(c-320,583.33) -269.91,533.25 ; -370.09,700.09 cw(c-320,650) -269.91,700.09 ; -370,250 -170,250 -170,450 ; -345,508.33 -370,533.33 -370,700 -345,725 -195,725 -170,700 -170,533.33 -195,508.33 ; -320,150 -320,250 ; -295,250 -295,225 ccw(c-270,225) -245,225 -245,250 ; -270.09,533.25 ccw(c-220,583.33) -169.91,533.25 ; -270.09,700.09 cw(c-220,650) -169.91,700.09 ; -270,533.33 -270,675 -270,700 ; -220,150 -220,250 ; -120,450 -120,350 ccw(c-70,350) -70,300 2030,300 ccw(c2030,350) 2080,350 2080,450 ; -70,525 -70,725 cw(c-20,725) -20,775 1980,775 cw(c1980,725) 2030,725 2030,525 ; -3.33,41.67 -3.33,300 ; 55,141.67 55,300 ; 113.33,41.67 113.33,291.67 113.33,300 ; 163.33,141.67 163.33,300 ; 221.67,41.67 221.67,291.67 221.67,300 ; 271.67,141.67 271.67,300 ; 330,41.67 330,291.67 330,300 ; 380,141.67 380,300 ; 438.33,41.67 438.33,291.67 438.33,300 ; 488.33,141.67 488.33,300 ; 546.67,41.67 546.67,291.67 546.67,300 ; 596.67,141.67 596.67,300 ; 655,41.67 655,291.67 655,300 ; 705,141.67 705,300 ; 763.33,41.67 763.33,291.67 763.33,300 ; 813.33,141.67 813.33,300 ; 871.67,41.67 871.67,291.67 871.67,300 ; 921.67,141.67 921.67,300 ; 980,41.67 980,300 ; 1030,141.67 1030,300 ; 1088.33,41.67 1088.33,300 ; 1138.33,141.67 1138.33,300 ; 1196.67,41.67 1196.67,291.67 1196.67,300 ; 1246.67,141.67 1246.67,300 ; 1305,41.67 1305,291.67 1305,300 ; 1355,141.67 1355,300 ; 1413.33,41.67 1413.33,291.67 1413.33,300 ; 1463.33,141.67 1463.33,300 ; 1521.67,41.67 1521.67,291.67 1521.67,300 ; 1571.67,141.67 1571.67,300 ; 1630,41.67 1630,291.67 1630,300 ; 1680,141.67 1680,300 ; 1738.33,41.67 1738.33,291.67 1738.33,300 ; 1788.33,141.67 1788.33,300 ; 1846.67,41.67 1846.67,291.67 1846.67,300 ; 1896.67,141.67 1896.67,300 ; 1955,41.67 1955,291.67 1955,300 ; 2129.91,533.25 ccw(c2180,583.33) 2230.09,533.25 ; 2129.91,700.09 cw(c2180,650) 2230.09,700.09 ; 2130,450 2130,250 2330,250 ; 2155,508.33 2130,533.33 2130,700 2155,725 2305,725 2330,700 2330,533.33 2305,508.33 ; 2180,150 2180,250 ; 2205,250 2205,225 ccw(c2230,225) 2255,225 2255,250 ; 2229.91,533.25 ccw(c2280,583.33) 2330.09,533.25 ; 2229.91,700.09 cw(c2280,650) 2330.09,700.09 ; 2230,533.33 2230,675 2230,700 ; 2280,150 2280,250 ; -386.67,-66.67 2346.67,-66.67 2346.67,508.33 -386.67,508.33 -386.67,-66.67
  text "19" at 2020,-30 h50
  text "37" at 1980,70 h50
  text "20" at -120,70 h50
  text "1" at -80,-30 h50

## DB37FLE [mil]
pads (39):
  oct 62x62 hole 35: 1(0,0)
  round 62 hole 35: 2(108.33,0) 3(216.67,0) 4(325,0) 5(433.33,0) 6(541.67,0) 7(650,0) 8(758.33,0) 9(866.67,0) 10(975,0) 11(1083.33,0) 12(1191.67,0) 13(1300,0) 14(1408.33,0) 15(1516.67,0) 16(1625,0) 17(1733.33,0) 18(1841.67,0) 19(1950,0) 20(54.17,100) 21(162.5,100) 22(270.83,100) 23(379.17,100) 24(487.5,100) 25(595.83,100) 26(704.17,100) 27(812.5,100) 28(920.83,100) 29(1029.17,100) 30(1137.5,100) 31(1245.83,100) 32(1354.17,100) 33(1462.5,100) 34(1570.83,100) 35(1679.17,100) 36(1787.5,100) 37(1895.83,100)
  round 196.67 hole 118.33: BO1(-271.67,50) BO2(2228.33,50)
TopOverlay:
  lines w8: -388.33,350 -155,350 ; -388.33,433.33 2345,433.33 ; -388.33,458.33 -321.67,458.33 ; -371.75,499.91 ccw(c-321.67,550) -271.58,499.91 ; -371.75,675.09 cw(c-321.67,625) -271.58,675.09 ; -346.67,475 -371.67,500 -371.67,675 -346.67,700 -196.67,700 -171.67,675 -171.67,500 -196.67,475 ; -321.67,433.33 -321.67,475 ; -271.75,499.91 ccw(c-221.67,550) -171.58,499.91 ; -271.75,675.09 cw(c-221.67,625) -171.58,675.09 ; -271.67,500 -271.67,675 ; -221.67,433.33 -221.67,475 ; -221.67,458.33 2178.33,458.33 ; -155,433.33 -155,-66.67 -388.33,-66.67 -388.33,475 2345,475 2345,-66.67 2111.67,-66.67 2111.67,433.33 ; -121.67,433.33 -121.67,350 ccw(c-71.67,350) -71.67,300 2028.33,300 ccw(c2028.33,350) 2078.33,350 2078.33,433.33 ; -71.67,475 -71.67,700 cw(c-21.67,700) -21.67,750 1978.33,750 cw(c1978.33,700) 2028.33,700 2028.33,475 ; -5,41.67 -5,300 ; 53.33,141.67 53.33,300 ; 111.67,41.67 111.67,291.67 111.67,300 ; 161.67,141.67 161.67,300 ; 220,41.67 220,291.67 220,300 ; 270,141.67 270,300 ; 328.33,41.67 328.33,291.67 328.33,300 ; 378.33,141.67 378.33,300 ; 436.67,41.67 436.67,291.67 436.67,300 ; 486.67,141.67 486.67,300 ; 545,41.67 545,291.67 545,300 ; 595,141.67 595,300 ; 653.33,41.67 653.33,291.67 653.33,300 ; 703.33,141.67 703.33,300 ; 761.67,41.67 761.67,291.67 761.67,300 ; 811.67,141.67 811.67,300 ; 870,41.67 870,291.67 870,300 ; 920,141.67 920,300 ; 978.33,41.67 978.33,300 ; 1028.33,141.67 1028.33,300 ; 1086.67,41.67 1086.67,300 ; 1136.67,141.67 1136.67,300 ; 1195,41.67 1195,291.67 1195,300 ; 1245,141.67 1245,300 ; 1303.33,41.67 1303.33,291.67 1303.33,300 ; 1353.33,141.67 1353.33,300 ; 1411.67,41.67 1411.67,291.67 1411.67,300 ; 1461.67,141.67 1461.67,300 ; 1520,41.67 1520,291.67 1520,300 ; 1570,141.67 1570,300 ; 1628.33,41.67 1628.33,291.67 1628.33,300 ; 1678.33,141.67 1678.33,300 ; 1736.67,41.67 1736.67,291.67 1736.67,300 ; 1786.67,141.67 1786.67,300 ; 1845,41.67 1845,291.67 1845,300 ; 1895,141.67 1895,300 ; 1953.33,41.67 1953.33,291.67 1953.33,300 ; 2111.67,350 2345,350 ; 2128.25,499.91 ccw(c2178.33,550) 2228.42,499.91 ; 2128.25,675.09 cw(c2178.33,625) 2228.42,675.09 ; 2153.33,475 2128.33,500 2128.33,675 2153.33,700 2303.33,700 2328.33,675 2328.33,500 2303.33,475 ; 2178.33,433.33 2178.33,475 ; 2228.25,499.91 ccw(c2278.33,550) 2328.42,499.91 ; 2228.25,675.09 cw(c2278.33,625) 2328.42,675.09 ; 2228.33,500 2228.33,675 ; 2278.33,433.33 2278.33,475 ; 2278.33,458.33 2345,458.33
  text "20" at -101.67,70 h50
  text "19" at 1998.33,-30 h50
  text "37" at 1978.33,70 h50
  text "1" at -81.67,-30 h50

## DB37FLW [mil]
pads (39):
  oct 62x62 hole 35: 1(0,0)
  round 62 hole 35: 2(108.33,0) 3(216.67,0) 4(325,0) 5(433.33,0) 6(541.67,0) 7(650,0) 8(758.33,0) 9(866.67,0) 10(975,0) 11(1083.33,0) 12(1191.67,0) 13(1300,0) 14(1408.33,0) 15(1516.67,0) 16(1625,0) 17(1733.33,0) 18(1841.67,0) 19(1950,0) 20(54.17,113.33) 21(162.5,113.33) 22(270.83,113.33) 23(379.17,113.33) 24(487.5,113.33) 25(595.83,113.33) 26(704.17,113.33) 27(812.5,113.33) 28(920.83,113.33) 29(1029.17,113.33) 30(1137.5,113.33) 31(1245.83,113.33) 32(1354.17,113.33) 33(1462.5,113.33) 34(1570.83,113.33) 35(1679.17,113.33) 36(1787.5,113.33) 37(1895.83,113.33)
  round 196.67 hole 118.33: BO1(-271.67,56.67) BO2(2228.33,56.67)
TopOverlay:
  lines w8: -388.33,481.67 2345,481.67 ; -371.75,548.25 ccw(c-321.67,598.33) -271.58,548.25 ; -371.75,681.75 cw(c-321.67,631.67) -271.58,681.75 ; -371.67,256.67 -171.67,256.67 -171.67,331.67 -171.67,481.67 ; -346.67,523.33 -371.67,548.33 -371.67,556.67 -371.67,681.67 -346.67,706.67 -196.67,706.67 -171.67,681.67 -171.67,673.33 -171.67,548.33 -196.67,523.33 ; -321.67,156.67 -321.67,256.67 ; -296.67,256.67 -296.67,231.67 ccw(c-271.67,231.67) -246.67,231.67 -246.67,256.67 ; -271.75,548.25 ccw(c-221.67,598.33) -171.58,548.25 ; -271.75,681.75 cw(c-221.67,631.67) -171.58,681.75 ; -271.67,548.33 -271.67,681.67 ; -221.67,156.67 -221.67,256.67 ; -121.67,481.67 -121.67,356.67 ccw(c-71.67,356.67) -71.67,306.67 2028.33,306.67 ccw(c2028.33,356.67) 2078.33,356.67 2078.33,481.67 ; -71.67,531.67 -71.67,706.67 cw(c-21.67,706.67) -21.67,756.67 1978.33,756.67 cw(c1978.33,706.67) 2028.33,706.67 2028.33,531.67 ; -5,48.33 -5,306.67 ; 53.33,165 53.33,306.67 ; 111.67,48.33 111.67,306.67 ; 161.67,165 161.67,306.67 ; 220,48.33 220,306.67 ; 270,165 270,306.67 ; 328.33,48.33 328.33,306.67 ; 378.33,165 378.33,306.67 ; 436.67,48.33 436.67,306.67 ; 486.67,165 486.67,306.67 ; 545,48.33 545,306.67 ; 595,165 595,306.67 ; 653.33,48.33 653.33,306.67 ; 703.33,165 703.33,306.67 ; 761.67,48.33 761.67,306.67 ; 811.67,165 811.67,306.67 ; 870,48.33 870,306.67 ; 920,165 920,306.67 ; 978.33,48.33 978.33,306.67 ; 1028.33,165 1028.33,306.67 ; 1078.33,40 1078.33,306.67 ; 1136.67,165 1136.67,306.67 ; 1195,48.33 1195,306.67 ; 1245,165 1245,306.67 ; 1303.33,48.33 1303.33,306.67 ; 1353.33,165 1353.33,306.67 ; 1411.67,48.33 1411.67,306.67 ; 1461.67,165 1461.67,306.67 ; 1520,48.33 1520,306.67 ; 1570,165 1570,306.67 ; 1628.33,48.33 1628.33,306.67 ; 1678.33,165 1678.33,306.67 ; 1736.67,48.33 1736.67,306.67 ; 1786.67,165 1786.67,306.67 ; 1845,48.33 1845,306.67 ; 1895,165 1895,306.67 ; 1953.33,48.33 1953.33,306.67 ; 2128.25,548.25 ccw(c2178.33,598.33) 2228.42,548.25 ; 2128.25,681.75 cw(c2178.33,631.67) 2228.42,681.75 ; 2128.33,481.67 2128.33,256.67 2328.33,256.67 ; 2153.33,523.33 2128.33,548.33 2128.33,556.67 2128.33,681.67 2153.33,706.67 2303.33,706.67 2328.33,681.67 2328.33,673.33 2328.33,548.33 2303.33,523.33 ; 2178.33,156.67 2178.33,256.67 ; 2203.33,256.67 2203.33,231.67 ccw(c2228.33,231.67) 2253.33,231.67 2253.33,256.67 ; 2228.25,548.25 ccw(c2278.33,598.33) 2328.42,548.25 ; 2228.25,681.75 cw(c2278.33,631.67) 2328.42,681.75 ; 2228.33,548.33 2228.33,681.67 ; 2278.33,156.67 2278.33,256.67 ; -388.33,-60 2345,-60 2345,523.33 -388.33,523.33 -388.33,-60
  text "37" at 1978.33,76.67 h50
  text "1" at -101.67,-23.33 h50
  text "20" at -101.67,96.67 h50
  text "19" at 2018.33,-23.33 h50

## DB37FS [mil]
pads (39):
  oct 62x62 hole 35: 1(0,0)
  round 62 hole 35: 2(108.33,0) 3(216.67,0) 4(325,0) 5(433.33,0) 6(541.67,0) 7(650,0) 8(758.33,0) 9(866.67,0) 10(975,0) 11(1083.33,0) 12(1191.67,0) 13(1300,0) 14(1408.33,0) 15(1516.67,0) 16(1625,0) 17(1733.33,0) 18(1841.67,0) 19(1950,0) 20(54.17,100) 21(162.5,100) 22(270.83,100) 23(379.17,100) 24(487.5,100) 25(595.83,100) 26(704.17,100) 27(812.5,100) 28(920.83,100) 29(1029.17,100) 30(1137.5,100) 31(1245.83,100) 32(1354.17,100) 33(1462.5,100) 34(1570.83,100) 35(1679.17,100) 36(1787.5,100) 37(1895.83,100)
  round 196.67 hole 118.33: BO1(-271.67,50) BO2(2228.33,50)
TopOverlay:
  lines w8: -71.67,150 -121.67,-50 ccw(c-71.67,-50) -71.67,-100 2028.33,-100 ccw(c2028.33,-50) 2078.33,-50 2028.33,150 ; -70.69,152.17 cw(c-5,133.33) -21.53,199.64 ; -21.67,200 1978.33,200 ; 1978.2,199.64 cw(c1961.67,133.33) 2027.97,149.86 ; -388.33,-158.33 ccw(c-346.67,-158.33) -346.67,-200 2303.33,-200 ccw(c2303.33,-158.33) 2345,-158.33 2345,258.33 ccw(c2303.33,258.33) 2303.33,300 -346.67,300 ccw(c-346.67,258.33) -388.33,258.33 -388.33,-158.33 ; -96.67,-41.67 -46.67,158.33 -5,183.33 1970,183.33 2011.67,141.67 2053.33,-25 2028.33,-75 -63.33,-75 -96.67,-41.67
  text "1" at -61.67,-30 h50